# EAGLE library part BQ25700ARSNT (library BQ25700ARSNT)
NVDC SMBus Battery Buck-Boost Charge Controller with System Power Monitor & Processor Source: Datasheet <http://www.ti.com/lit/gpn/bq25700a>
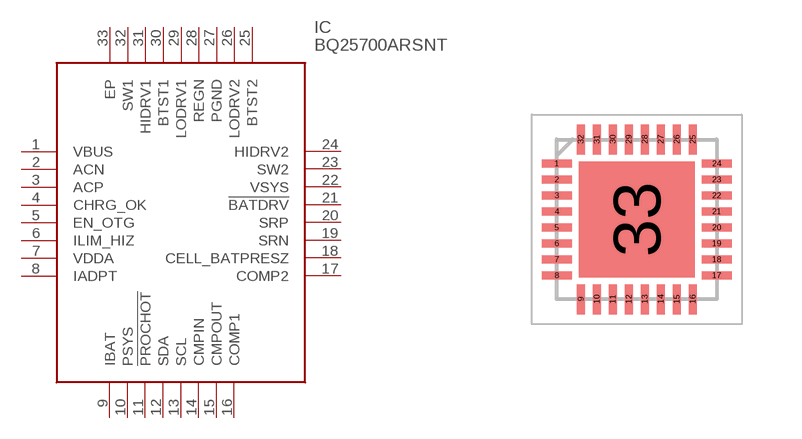
[diagram p0: symbol with the pads of QFN40P400X400X80-33N; footprint QFN40P400X400X80-33N]

Designator prefix IC

## BQ25700ARSNT (Arrow_Part_Number: BQ25700ARSNT; Arrow_Price-Stock: https://www.arrow.com/en/products/bq25700arsnt/texas-instruments?region=nac; Description: NVDC SMBus Battery Buck-Boost Charge Controller with System Power Monitor & Processor; Height: 0.8mm; Manufacturer_Name: Texas Instruments; Manufacturer_Part_Number: BQ25700ARSNT; Mouser_Part_Number: 595-BQ25700ARSNT; Mouser_Price-Stock: https://www.mouser.co.uk/ProductDetail/Texas-Instruments/BQ25700ARSNT?qs=5aG0NVq1C4w7NioJL166ZA%3D%3D)  [QFN40P400X400X80-33N]
1  VBUS
2  ACN
3  ACP
4  CHRG_OK
5  EN_OTG
6  ILIM_HIZ
7  VDDA
8  IADPT
9  IBAT
10  PSYS
11  !PROCHOT
12  SDA
13  SCL
14  CMPIN
15  CMPOUT
16  COMP1
17  COMP2
18  CELL_BATPRESZ
19  SRN
20  SRP
21  !BATDRV
22  VSYS
23  SW2
24  HIDRV2
25  BTST2
26  LODRV2
27  PGND
28  REGN
29  LODRV1
30  BTST1
31  HIDRV1
32  SW1
33  EP

## Footprint QFN40P400X400X80-33N (pad centres in mm)
RSN (S-PWQFN-N32)-1
smd 0.75 x 0.2: 1 -2,1.4; 2 -2,1; 3 -2,0.6; 4 -2,0.2; 5 -2,-0.2; 6 -2,-0.6; 7 -2,-1; 8 -2,-1.4; 17 2,-1.4; 18 2,-1; 19 2,-0.6; 20 2,-0.2; 21 2,0.2; 22 2,0.6; 23 2,1; 24 2,1.4
smd 0.2 x 0.75: 9 -1.4,-2; 10 -1,-2; 11 -0.6,-2; 12 -0.2,-2; 13 0.2,-2; 14 0.6,-2; 15 1,-2; 16 1.4,-2; 25 1.4,2; 26 1,2; 27 0.6,2; 28 0.2,2; 29 -0.2,2; 30 -0.6,2; 31 -1,2; 32 -1.4,2
smd 2.9 x 2.9: 33 0,0